# EAGLE library part 310090078_W25Q32BVZPIP (library Seeed-OPL-2017-01-IC-Akita)
Winbond;W25Q32BVZPIP, SMD IC Memory;WSON-8(6*5mm), SKU: 310090078
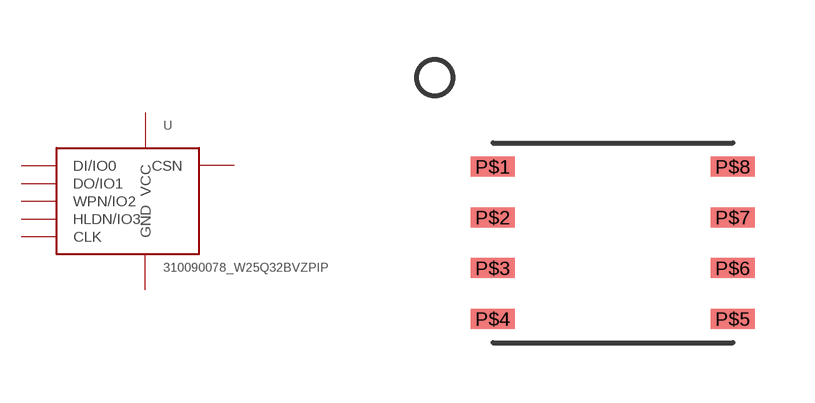
[diagram p9: symbol with the pads of WSON8; footprint WSON8]

Designator prefix -

## 310090078_W25Q32BVZPIP  [WSON8]
P$1  CSN
P$2  DO/IO1
P$3  WPN/IO2
P$4  GND  pwr
P$5  DI/IO0
P$6  CLK
P$7  HLDN/IO3
P$8  VCC  pwr

## Footprint WSON8 (pad centres in mm)
WSON8(6x5mm)
smd 1.1 x 0.5: P$1 -3,1.905; P$2 -3,0.635; P$3 -3,-0.635; P$4 -3,-1.905; P$5 3,-1.905; P$6 3,-0.635; P$7 3,0.635; P$8 3,1.905